# Altium schematic symbol library SCH GER. ABS.SchLib: 18 symbols
Pins are listed as number, name and electrical type; pins without a type are passive.

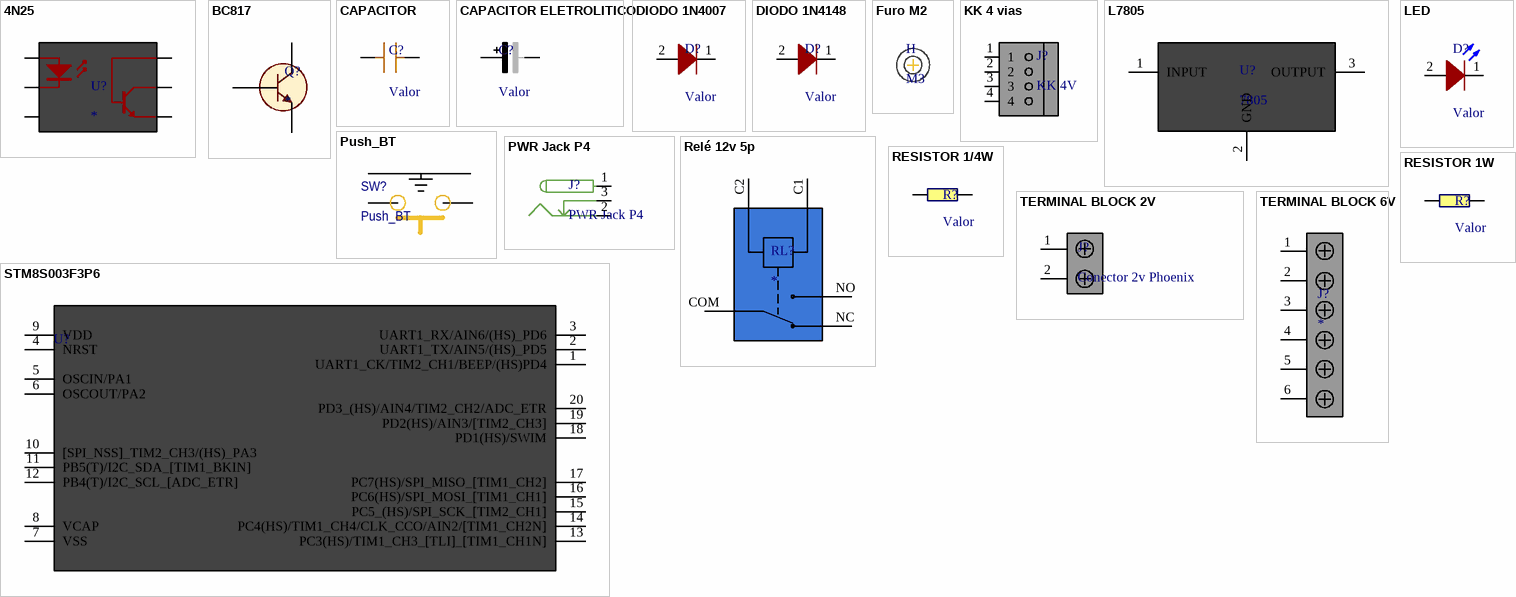
[diagram p0: symbols 4N25 to TERMINAL BLOCK 6V]

## 4N25
designator U?
footprint 4N25
pins: 1 A "Anode", 2 K "Anode", 3 NC "Cathode", 5 C "Collector", 6 B "Anode", 6 E "Emitter"

## BC817
designator Q?
footprint SOT23
pins: 1 B, 2 E, 3 C

## CAPACITOR
designator C?, comment Valor
Capacitor; Published: 8-Jun-2000; LatestRevisionDate: 17-Jul-2002; LatestRevisionNote: Re-released for DXP Platform.; PackageReference: RAD-0.3; Publisher: Altium Limited; PackageDescription: Radial Cap, Thru-Hole; 2 Leads; 0.3 in Pin Spacing
footprint Capacitor 0805
pins: 1, 2

## CAPACITOR ELETROLITICO
designator C?, comment Valor
Polarized Capacitor (Radial); Published: 8-Jun-2000; LatestRevisionDate: 17-Jul-2002; LatestRevisionNote: Re-released for DXP Platform.; PackageReference: RB7.6-15; Publisher: Altium Limited; PackageDescription: Polarized Capacitor (Radial); 2 Leads
footprint CAP 100X25 SMD
pins: 1 +, 2 -
1 alternate drawing of the same symbol

## DIODO 1N4007
designator D?, comment Valor
Diodo retificador de uso geral.; Published: 8-Jun-2000; LatestRevisionDate: 17-Jul-2002; LatestRevisionNote: Re-released for DXP Platform.; DatasheetVersion: 1997; PackageReference: DO-35; Publisher: Altium Limited; PackageDescription: Diode, Axial; Body 3.8 x 1.9 mm (LxDia. max), Lead Dia. 0.53 mm (max); Code_JEDEC: DO-204-AH; ComponentLink1Description: Manufacturer Link; ComponentLink1URL: http://www.fairchildsemi.com/; ComponentLink2Description: Datasheet; ComponentLink2URL: http://www.fairchildsemi.com/ds/1N%2F1N4148.pdf
footprint SOD123 (DIODO)
pins: 1, 2

## DIODO 1N4148
designator D?, comment Valor
Diodo rapido; Published: 8-Jun-2000; LatestRevisionDate: 17-Jul-2002; LatestRevisionNote: Re-released for DXP Platform.; DatasheetVersion: 1997; PackageReference: DO-35; Publisher: Altium Limited; PackageDescription: Diode, Axial; Body 3.8 x 1.9 mm (LxDia. max), Lead Dia. 0.53 mm (max); Code_JEDEC: DO-204-AH; ComponentLink1Description: Manufacturer Link; ComponentLink1URL: http://www.fairchildsemi.com/; ComponentLink2Description: Datasheet; ComponentLink2URL: http://www.fairchildsemi.com/ds/1N%2F1N4148.pdf
footprint DIOMELF3516N (MELF Diode, 2-Leads, Body 3,51x1,65mm, IPC Medium Density)
pins: 1, 2

## Furo M2
designator H, comment M3
footprint Parafuso M2

## KK 4 vias
designator J?, comment KK 4V
footprint CONN KK 4 VIAS
pins: 1, 2, 3, 4

## L7805
designator U?, comment 7805
footprint TO252-3
pins: 1 INPUT, 2 GND, 3 OUTPUT

## LED
designator D?, comment Valor
Typical RED, GREEN, YELLOW, AMBER GaAs LED; Published: 8-Jun-2000; LatestRevisionDate: 17-Jul-2002; LatestRevisionNote: Re-released for DXP Platform.; PackageVersion: Feb-2002; PackageReference: 3.2X1.6X1.1; Publisher: Altium Limited; PackageDescription: SM LED; 2 Flat Leads
footprint LED-LTST-C170TBKT (LED 120X120MM)
footprint LED 3MM
pins: 1, 2

## Push_BT
designator SW?
footprint SWITCH 9.5 180
pins: 1, 2, 3 4, 4 3

## PWR Jack P4
designator J?
Connector Power PL 2 POS Solder RA Thru-Hole 3 Terminal 1 Port Bulk; Manufacturer: Switchcraft; Manufacturer Part Number: RAPC712X; Body Color: Black; Body Material: Thermoplastic; Number of Terminals/Pins: 3; Gender: Male; Shielding: Unshielded; Connector Type: Power,Jack; Current Rating: 5A; Insulation Resistance: 30MR; Number of Contacts: 2; Number of Ports: 1; Pin Diameter: 2.5mm; RoHS: Yes; Category: Connectors; Stock 1: 13399; Pricing 1: 1=1,91000, 10=1,33000, 50=1,33000, 100=1,23000, 1000=1,06000, 10000=1,04000 (USD); Mount: Through Hole,PCB,Panel; Number of Pins: 3; Contact Material: Brass; Contact Plating: Nickel,Silver; Housing Material: Thermoplastic; Color: Black; Housing Color: Black; Packaging: Bulk; Termination: Solder; Package Quantity: 2500; Orientation: Right Angle; Series: -; Contact Gender: Female; Max Current Rating: 5A; Primary Type: POWER; Length: 9mm; Depth: 14.5mm; Lead Free: Lead Free; Flammability Rating: UL94 V-0; RoHS Compliant: Yes; Reach SVHC Compliant: Yes; ComponentLink1URL: https://datasheet.ciiva.com/15173/getdatasheetpartid-110865-15173793.pdf?src-supplier=Verical; ComponentLink1Description: https://datasheet.ciiva.com/15173/getdatasheetpartid-110865-15173793.pdf?src-supplier=Verical; ComponentLink2URL: https://datasheet.ciiva.com/391/rapc712x-cd-391666.pdf?src-supplier=Digi-Key; ComponentLink2Description: https://datasheet.ciiva.com/391/rapc712x-cd-391666.pdf?src-supplier=Digi-Key; Supplier Part Number 1: 502-RAPC712X
footprint Jack P4 SMT
pins: 1, 2, 3

## Relé 12v 5p
designator RL?
footprint RELAY
pins: C1 COIL_1, C2 COIL_2, COM, NC, NO

## RESISTOR 1/4W
designator R?, comment Valor
Resistor; Published: 8-Jun-2000; LatestRevisionDate: 17-Jul-2002; LatestRevisionNote: Re-released for DXP Platform.; PackageReference: AXIAL-0.4; Publisher: Altium Limited; PackageDescription: Axial Device, Thru-Hole; 2 Leads; 0.4 in Pin Spacing
footprint RESISTOR 1/4W 0805
pins: 1, 2

## RESISTOR 1W
designator R?, comment Valor
Resistor; Published: 8-Jun-2000; LatestRevisionDate: 17-Jul-2002; LatestRevisionNote: Re-released for DXP Platform.; PackageReference: AXIAL-0.4; Publisher: Altium Limited; PackageDescription: Axial Device, Thru-Hole; 2 Leads; 0.4 in Pin Spacing
footprint RESISTOR 1W 2512
pins: 1, 2

## STM8S003F3P6
designator U?  (value not drawn)
STMICROELECTRONICS - STM8S003F3P6 - MCU, 8BIT, STM8, 16MHZ, TSSOP-20; Geometry.Height: 1.2mm; Mouser Part Number: 511-STM8S003F3P6; Mouser Price/Stock: https://www.mouser.co.uk/ProductDetail/STMicroelectronics/STM8S003F3P6?qs=vV0pr1uq7fD%252BGii5YhjnYw%3D%3D; Manufacturer_Name: STMicroelectronics; Manufacturer_Part_Number: STM8S003F3P6; Datasheet Link: http://www.st.com/web/en/resource/technical/document/datasheet/DM00024550.pdf
footprint SOP65P640X170-20N (SOP, 20-Leads, Body 6,50x4,40mm, Pitch 0,65mm, IPC Medium Density)
pins: 1 UART1_CK/TIM2_CH1/BEEP/(HS)PD4, 2 UART1_TX/AIN5/(HS)_PD5, 3 UART1_RX/AIN6/(HS)_PD6, 4 NRST, 5 OSCIN/PA1, 6 OSCOUT/PA2, 7 VSS, 8 VCAP, 9 VDD, 10 [SPI_NSS]_TIM2_CH3/(HS)_PA3, 11 PB5(T)/I2C_SDA_[TIM1_BKIN], 12 PB4(T)/I2C_SCL_[ADC_ETR], 13 PC3(HS)/TIM1_CH3_[TLI]_[TIM1_CH1N], 14 PC4(HS)/TIM1_CH4/CLK_CCO/AIN2/[TIM1_CH2N], 15 PC5_(HS)/SPI_SCK_[TIM2_CH1], 16 PC6(HS)/SPI_MOSI_[TIM1_CH1], 17 PC7(HS)/SPI_MISO_[TIM1_CH2], 18 PD1(HS)/SWIM, 19 PD2(HS)/AIN3/[TIM2_CH3], 20 PD3_(HS)/AIN4/TIM2_CH2/ADC_ETR

## TERMINAL BLOCK 2V
designator J?, comment Conector 2v Phoenix
Block, Terminal; 6 A; 63 V; 5 mm; 26 to 20 AWG; 2; Screw; Soldering; 1.5 kV; Manufacturer: Phoenix Contact; Manufacturer Part Number: 1725656; Current Rating: 6A; Voltage Rating: 125V; Number of Positions: 2; Number of Levels: 1; Connector Type: Screw,PCB,Terminal Block; Max Supply Voltage: 63V; Pitch: 2.54mm; Wire Gauge (Max): 26AWG; Wire Gauge (Min): 20AWG; Stripping Length: 4.5mm; Approvals: UL,CSA,cULus,EAC; RoHS: Yes; Category: Terminal Blocks; Stock 1: 29866; Pricing 1: 1=1,94000, 10=1,76000, 50=1,69000, 100=1,64000, 1000=1,27000, 10000=1,17000 (USD); Mount: Through Hole; Number of Pins: 2; Contact Material: Tin; Weight: 0.022575oz; Housing Material: Polyamide; Color: Green; Housing Color: Green; Insulation Material: Nylon; Package Quantity: 50; Packaging: Bulk; Termination: Solder; Series: MPT; Max Current Rating: 6A; Number of Contacts: 2; Number of Rows: 1; Number of Positions Per Level: 2; Current: 6A; Voltage: 125V; Orientation: Straight; Number of Poles: 2; Number of Circuits: 2; Length: 5.54mm; Width: 12mm; Height: 6.2mm; Depth: 6.2mm; Wire/Cable Gauge: 26AWG; Radiation Hardening: No; RoHS Compliant: Yes; Lead Free: Lead Free; Flammability Rating: UL94 V-0; Reach SVHC Compliant: Yes; ComponentLink1URL: https://datasheet.ciiva.com/16071/1725656-16071846.pdf?src-supplier=Onlinecomponents.com; ComponentLink1Description: https://datasheet.ciiva.com/16071/1725656-16071846.pdf?src-supplier=Onlinecomponents.com; ComponentLink2URL: https://datasheet.ciiva.com/15169/getdatasheetpartid-199323-15169849.pdf?src-supplier=Verical; ComponentLink2Description: https://datasheet.ciiva.com/15169/getdatasheetpartid-199323-15169849.pdf?src-supplier=Verical; ComponentLink3URL: https://datasheet.ciiva.com/823/1725656-823793.pdf?src-supplier=Digi-Key; ComponentLink3Description: https://datasheet.ciiva.com/823/1725656-823793.pdf?src-supplier=Digi-Key; ComponentLink4URL: https://datasheet.ciiva.com/1120/319957-1120510.pdf?src-supplier=Farnell; ComponentLink4Description: https://datasheet.ciiva.com/1120/319957-1120510.pdf?src-supplier=Farnell; ComponentLink5URL: https://datasheet.ciiva.com/26340/788052-da-01-en-100ntklemme-1725656-250-st-26340907.pdf?src-supplier=Conrad; ComponentLink5Description: https://datasheet.ciiva.com/26340/788052-da-01-en-100ntklemme-1725656-250-st-26340907.pdf?src-supplier=Conrad; Supplier Part Number 1: 651-1725656
footprint Terminal block 5mm 2V
pins: 1, 2

## TERMINAL BLOCK 6V
designator J?
Block, Terminal; 6 A; 63 V; 5 mm; 26 to 20 AWG; 6 Screw; Soldering; 1.5 kV
footprint Terminal block 5mm 6V
pins: 1, 2, 3, 4, 5, 6